# EAGLE library part SOIC127P600X175-8N (library TCN75A)
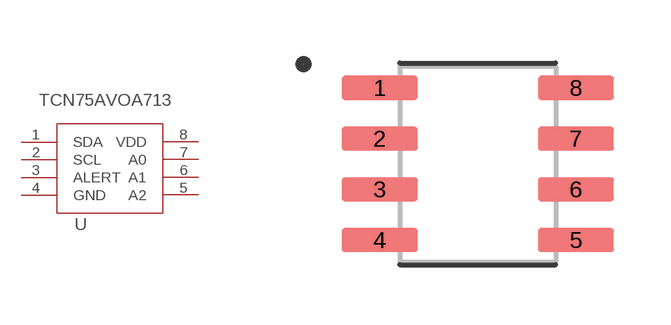
[diagram p0: symbol with the pads of SOIC127P600X175-8N; footprint SOIC127P600X175-8N]

Designator prefix U

## SOIC127P600X175-8N (A1_MIN: 0.1; A_MAX: 1.75; A_MIN: 1.75; A_NOM: 1.75; B_MAX: 0.51; B_MIN: 0.31; B_NOM: 0.41; D2_MAX: 0.0; D_MAX: 4.9; D_MIN: 4.9; D_NOM: 4.9; E1_MAX: 3.9; E1_MIN: 3.9; E1_NOM: 3.9; E2_MAX: 0.0; ENOM: 1.27; E_MAX: 6.0; E_MIN: 6.0; E_NOM: 6.0; L_MAX: 1.27; L_MIN: 0.4; L_NOM: 0.835; MANUFACTURER: hotchip; PIN_COUNT: 8.0; STANDARD: IPC 7351B)  [SOIC127P600X175-8N]
1  SDA
2  SCL
3  ALERT
4  GND
5  A2
6  A1
7  A0
8  VDD

## Footprint SOIC127P600X175-8N (pad centres in mm)
smd 1.9 x 0.6: 1 -2.455,1.905; 2 -2.455,0.635; 3 -2.455,-0.635; 4 -2.455,-1.905; 5 2.455,-1.905; 6 2.455,-0.635; 7 2.455,0.635; 8 2.455,1.905